# Altium footprint library CONN 73391-0060.PcbLib: 1 footprints
Each footprint in its own frame and in the unit in brackets; x right, y up, seen from the top. Pads: shape width x height; smd on the part's side, far side on the other; paste and mask are expansions set on the pad; w line width, h text height; cw(c..) or ccw(c..) is an arc to the next point about the centre after c.
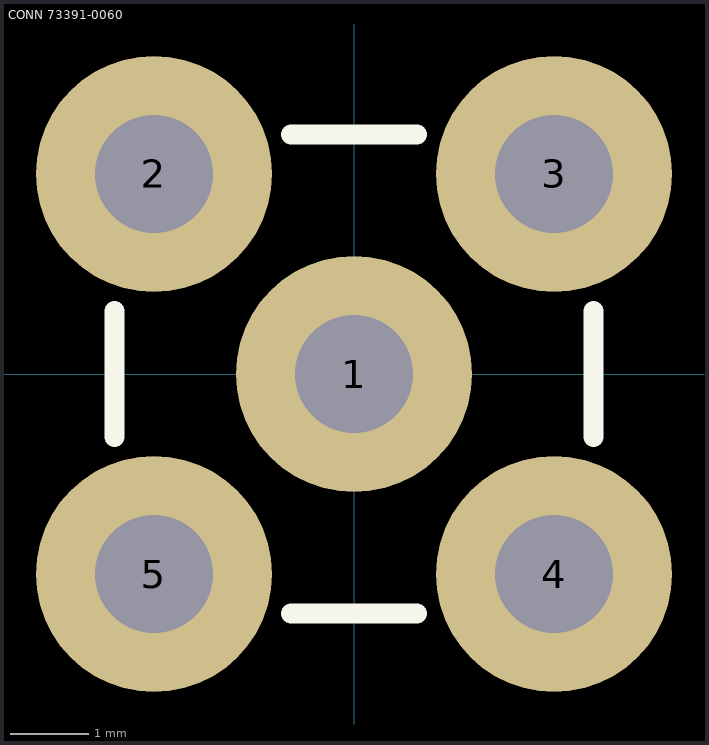
[diagram p0: the footprint, top view; thin cyan lines are the x and y axes]

## CONN 73391-0060 [mm]
pads (5):
  round 3 hole 1.5: 1(0,0) 2(-2.54,2.54) 3(2.54,2.54) 4(2.54,-2.54) 5(-2.54,-2.54)
Top Overlay:
  lines w0.254: -3.04,-0.8 -3.04,0.8 ; -0.8,-3.04 0.8,-3.04 ; -0.8,3.04 0.8,3.04 ; 3.04,-0.8 3.04,0.8
3D body: height 9.53, standoff -3.94, extent -3.5,-3.5 3.5,3.5